# Altium schematic symbol library con-amp-micromatch-8-vias.SCHLIB: 108 symbols (part 3 of 3)
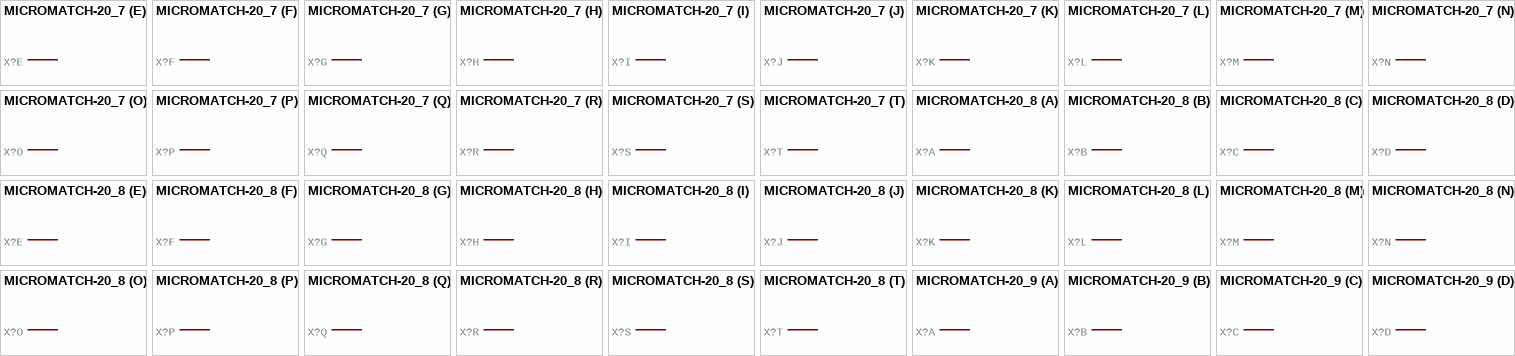
[diagram p40: symbols MICROMATCH-20_7 to MICROMATCH-20_9]

## MICROMATCH-20_7
designator X?, comment MicroMaTch 20  9-215464-0 / 2-215464-0   Drawing Number C-215464 DDEController.pdf  (value not drawn)
GateName_1: -1; SymbolName_1: MV; GateName_2: -2; SymbolName_2: M; GateName_3: -3; GateName_4: -4; GateName_5: -5; GateName_6: -6; GateName_7: -7; GateName_8: -8; GateName_9: -9; GateName_10: -10; GateName_11: -11; GateName_12: -12; GateName_13: -13; GateName_14: -14; GateName_15: -15; GateName_16: -16; GateName_17: -17; GateName_18: -18; GateName_19: -19; GateName_20: -20; DeviceSetName: MICROMATCH-20; MF: FARNELL; SymbolName_3: M; SymbolName_4: M; SymbolName_5: M; SymbolName_6: M; SymbolName_7: M; SymbolName_8: M; SymbolName_9: M; SymbolName_10: M; SymbolName_11: M; SymbolName_12: M; SymbolName_13: M; SymbolName_14: M; SymbolName_15: M; SymbolName_16: M; SymbolName_17: M; SymbolName_18: M; SymbolName_19: M; SymbolName_20: M; LibraryName: con-amp-micromatch-8-vias; Package: MICROMATCH-20; MPN: 9-215464-0; OC_FARNELL: 3784708; OC_NEWARK: 19J6798
footprint MICROMATCH-20
part A pins: 1 S
part B pins: 2 S
part C pins: 3 S
part D pins: 4 S
part E pins: 5 S
part F pins: 6 S
part G pins: 7 S
part H pins: 8 S
part I pins: 9 S
part J pins: 10 S
part K pins: 11 S
part L pins: 12 S
part M pins: 13 S
part N pins: 14 S
part O pins: 15 S
part P pins: 16 S
part Q pins: 17 S
part R pins: 18 S
part S pins: 19 S
part T pins: 20 S

## MICROMATCH-20_8
designator X?, comment MicroMaTch 20  9-215464-0 / 2-215464-0   Drawing Number C-215464 DDEController.pdf  (value not drawn)
GateName_1: -1; SymbolName_1: MV; GateName_2: -2; SymbolName_2: M; GateName_3: -3; GateName_4: -4; GateName_5: -5; GateName_6: -6; GateName_7: -7; GateName_8: -8; GateName_9: -9; GateName_10: -10; GateName_11: -11; GateName_12: -12; GateName_13: -13; GateName_14: -14; GateName_15: -15; GateName_16: -16; GateName_17: -17; GateName_18: -18; GateName_19: -19; GateName_20: -20; DeviceSetName: MICROMATCH-20; MF: FARNELL; SymbolName_3: M; SymbolName_4: M; SymbolName_5: M; SymbolName_6: M; SymbolName_7: M; SymbolName_8: M; SymbolName_9: M; SymbolName_10: M; SymbolName_11: M; SymbolName_12: M; SymbolName_13: M; SymbolName_14: M; SymbolName_15: M; SymbolName_16: M; SymbolName_17: M; SymbolName_18: M; SymbolName_19: M; SymbolName_20: M; LibraryName: con-amp-micromatch-8-vias; Package: MICROMATCH-20; MPN: 9-215464-0; OC_FARNELL: 3784708; OC_NEWARK: 19J6798
footprint MICROMATCH-20
part A pins: 1 S
part B pins: 2 S
part C pins: 3 S
part D pins: 4 S
part E pins: 5 S
part F pins: 6 S
part G pins: 7 S
part H pins: 8 S
part I pins: 9 S
part J pins: 10 S
part K pins: 11 S
part L pins: 12 S
part M pins: 13 S
part N pins: 14 S
part O pins: 15 S
part P pins: 16 S
part Q pins: 17 S
part R pins: 18 S
part S pins: 19 S
part T pins: 20 S

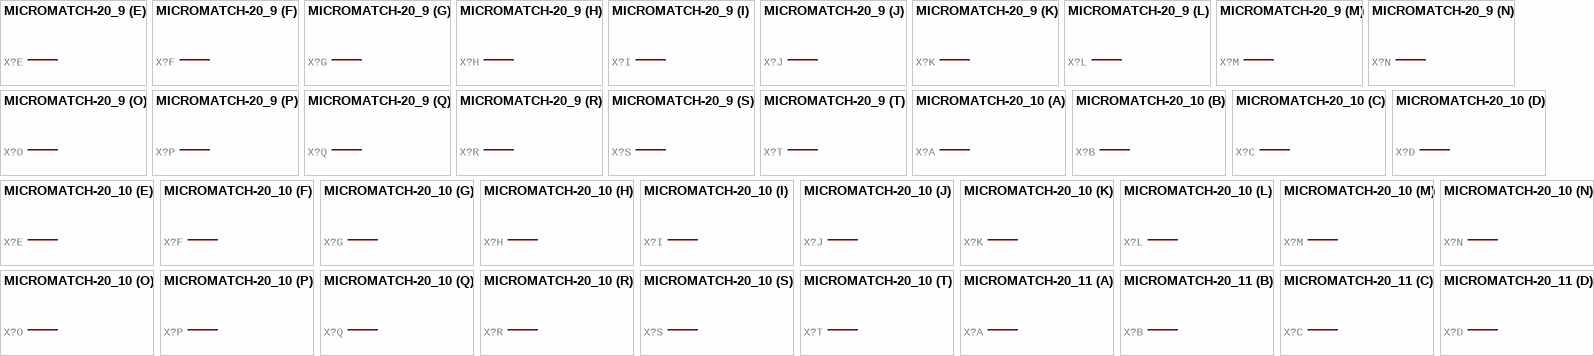
[diagram p33: symbols MICROMATCH-20_9 to MICROMATCH-20_11]

## MICROMATCH-20_9
designator X?, comment MicroMaTch 20  9-215464-0 / 2-215464-0   Drawing Number C-215464 DDEController.pdf  (value not drawn)
GateName_1: -1; SymbolName_1: MV; GateName_2: -2; SymbolName_2: M; GateName_3: -3; GateName_4: -4; GateName_5: -5; GateName_6: -6; GateName_7: -7; GateName_8: -8; GateName_9: -9; GateName_10: -10; GateName_11: -11; GateName_12: -12; GateName_13: -13; GateName_14: -14; GateName_15: -15; GateName_16: -16; GateName_17: -17; GateName_18: -18; GateName_19: -19; GateName_20: -20; DeviceSetName: MICROMATCH-20; MF: FARNELL; SymbolName_3: M; SymbolName_4: M; SymbolName_5: M; SymbolName_6: M; SymbolName_7: M; SymbolName_8: M; SymbolName_9: M; SymbolName_10: M; SymbolName_11: M; SymbolName_12: M; SymbolName_13: M; SymbolName_14: M; SymbolName_15: M; SymbolName_16: M; SymbolName_17: M; SymbolName_18: M; SymbolName_19: M; SymbolName_20: M; LibraryName: con-amp-micromatch-8-vias; Package: MICROMATCH-20; MPN: 9-215464-0; OC_FARNELL: 3784708; OC_NEWARK: 19J6798
footprint MICROMATCH-20
part A pins: 1 S
part B pins: 2 S
part C pins: 3 S
part D pins: 4 S
part E pins: 5 S
part F pins: 6 S
part G pins: 7 S
part H pins: 8 S
part I pins: 9 S
part J pins: 10 S
part K pins: 11 S
part L pins: 12 S
part M pins: 13 S
part N pins: 14 S
part O pins: 15 S
part P pins: 16 S
part Q pins: 17 S
part R pins: 18 S
part S pins: 19 S
part T pins: 20 S

## MICROMATCH-20_10
designator X?, comment MicroMaTch 20  9-215464-0 / 2-215464-0   Drawing Number C-215464 DDEController.pdf  (value not drawn)
GateName_1: -1; SymbolName_1: MV; GateName_2: -2; SymbolName_2: M; GateName_3: -3; GateName_4: -4; GateName_5: -5; GateName_6: -6; GateName_7: -7; GateName_8: -8; GateName_9: -9; GateName_10: -10; GateName_11: -11; GateName_12: -12; GateName_13: -13; GateName_14: -14; GateName_15: -15; GateName_16: -16; GateName_17: -17; GateName_18: -18; GateName_19: -19; GateName_20: -20; DeviceSetName: MICROMATCH-20; MF: FARNELL; SymbolName_3: M; SymbolName_4: M; SymbolName_5: M; SymbolName_6: M; SymbolName_7: M; SymbolName_8: M; SymbolName_9: M; SymbolName_10: M; SymbolName_11: M; SymbolName_12: M; SymbolName_13: M; SymbolName_14: M; SymbolName_15: M; SymbolName_16: M; SymbolName_17: M; SymbolName_18: M; SymbolName_19: M; SymbolName_20: M; LibraryName: con-amp-micromatch-8-vias; Package: MICROMATCH-20; MPN: 9-215464-0; OC_FARNELL: 3784708; OC_NEWARK: 19J6798
footprint MICROMATCH-20
part A pins: 1 S
part B pins: 2 S
part C pins: 3 S
part D pins: 4 S
part E pins: 5 S
part F pins: 6 S
part G pins: 7 S
part H pins: 8 S
part I pins: 9 S
part J pins: 10 S
part K pins: 11 S
part L pins: 12 S
part M pins: 13 S
part N pins: 14 S
part O pins: 15 S
part P pins: 16 S
part Q pins: 17 S
part R pins: 18 S
part S pins: 19 S
part T pins: 20 S

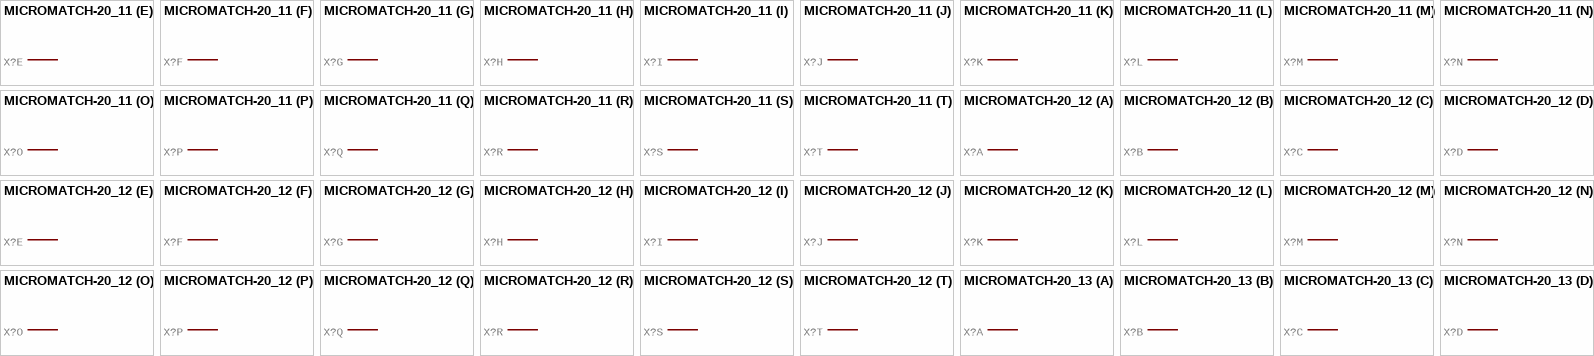
[diagram p34: symbols MICROMATCH-20_11 to MICROMATCH-20_13]

## MICROMATCH-20_11
designator X?, comment MicroMaTch 20  9-215464-0 / 2-215464-0   Drawing Number C-215464 DDEController.pdf  (value not drawn)
GateName_1: -1; SymbolName_1: MV; GateName_2: -2; SymbolName_2: M; GateName_3: -3; GateName_4: -4; GateName_5: -5; GateName_6: -6; GateName_7: -7; GateName_8: -8; GateName_9: -9; GateName_10: -10; GateName_11: -11; GateName_12: -12; GateName_13: -13; GateName_14: -14; GateName_15: -15; GateName_16: -16; GateName_17: -17; GateName_18: -18; GateName_19: -19; GateName_20: -20; DeviceSetName: MICROMATCH-20; MF: FARNELL; SymbolName_3: M; SymbolName_4: M; SymbolName_5: M; SymbolName_6: M; SymbolName_7: M; SymbolName_8: M; SymbolName_9: M; SymbolName_10: M; SymbolName_11: M; SymbolName_12: M; SymbolName_13: M; SymbolName_14: M; SymbolName_15: M; SymbolName_16: M; SymbolName_17: M; SymbolName_18: M; SymbolName_19: M; SymbolName_20: M; LibraryName: con-amp-micromatch-8-vias; Package: MICROMATCH-20; MPN: 9-215464-0; OC_FARNELL: 3784708; OC_NEWARK: 19J6798
footprint MICROMATCH-20
part A pins: 1 S
part B pins: 2 S
part C pins: 3 S
part D pins: 4 S
part E pins: 5 S
part F pins: 6 S
part G pins: 7 S
part H pins: 8 S
part I pins: 9 S
part J pins: 10 S
part K pins: 11 S
part L pins: 12 S
part M pins: 13 S
part N pins: 14 S
part O pins: 15 S
part P pins: 16 S
part Q pins: 17 S
part R pins: 18 S
part S pins: 19 S
part T pins: 20 S

## MICROMATCH-20_12
designator X?, comment MicroMaTch 20  9-215464-0 / 2-215464-0   Drawing Number C-215464 DDEController.pdf  (value not drawn)
GateName_1: -1; SymbolName_1: MV; GateName_2: -2; SymbolName_2: M; GateName_3: -3; GateName_4: -4; GateName_5: -5; GateName_6: -6; GateName_7: -7; GateName_8: -8; GateName_9: -9; GateName_10: -10; GateName_11: -11; GateName_12: -12; GateName_13: -13; GateName_14: -14; GateName_15: -15; GateName_16: -16; GateName_17: -17; GateName_18: -18; GateName_19: -19; GateName_20: -20; DeviceSetName: MICROMATCH-20; MF: FARNELL; SymbolName_3: M; SymbolName_4: M; SymbolName_5: M; SymbolName_6: M; SymbolName_7: M; SymbolName_8: M; SymbolName_9: M; SymbolName_10: M; SymbolName_11: M; SymbolName_12: M; SymbolName_13: M; SymbolName_14: M; SymbolName_15: M; SymbolName_16: M; SymbolName_17: M; SymbolName_18: M; SymbolName_19: M; SymbolName_20: M; LibraryName: con-amp-micromatch-8-vias; Package: MICROMATCH-20; MPN: 9-215464-0; OC_FARNELL: 3784708; OC_NEWARK: 19J6798
footprint MICROMATCH-20
part A pins: 1 S
part B pins: 2 S
part C pins: 3 S
part D pins: 4 S
part E pins: 5 S
part F pins: 6 S
part G pins: 7 S
part H pins: 8 S
part I pins: 9 S
part J pins: 10 S
part K pins: 11 S
part L pins: 12 S
part M pins: 13 S
part N pins: 14 S
part O pins: 15 S
part P pins: 16 S
part Q pins: 17 S
part R pins: 18 S
part S pins: 19 S
part T pins: 20 S

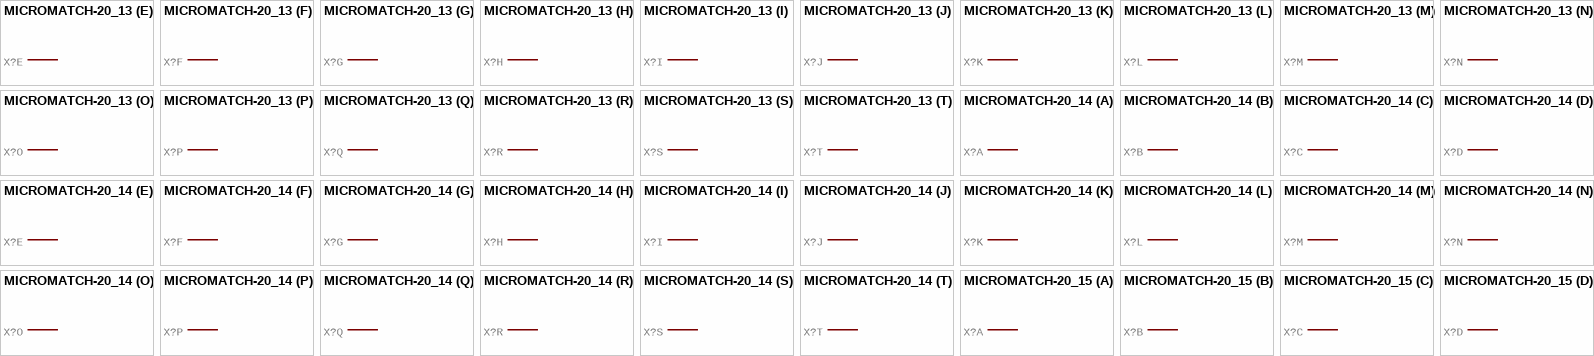
[diagram p35: symbols MICROMATCH-20_13 to MICROMATCH-20_15]

## MICROMATCH-20_13
designator X?, comment MicroMaTch 20  9-215464-0 / 2-215464-0   Drawing Number C-215464 DDEController.pdf  (value not drawn)
GateName_1: -1; SymbolName_1: MV; GateName_2: -2; SymbolName_2: M; GateName_3: -3; GateName_4: -4; GateName_5: -5; GateName_6: -6; GateName_7: -7; GateName_8: -8; GateName_9: -9; GateName_10: -10; GateName_11: -11; GateName_12: -12; GateName_13: -13; GateName_14: -14; GateName_15: -15; GateName_16: -16; GateName_17: -17; GateName_18: -18; GateName_19: -19; GateName_20: -20; DeviceSetName: MICROMATCH-20; MF: FARNELL; SymbolName_3: M; SymbolName_4: M; SymbolName_5: M; SymbolName_6: M; SymbolName_7: M; SymbolName_8: M; SymbolName_9: M; SymbolName_10: M; SymbolName_11: M; SymbolName_12: M; SymbolName_13: M; SymbolName_14: M; SymbolName_15: M; SymbolName_16: M; SymbolName_17: M; SymbolName_18: M; SymbolName_19: M; SymbolName_20: M; LibraryName: con-amp-micromatch-8-vias; Package: MICROMATCH-20; MPN: 9-215464-0; OC_FARNELL: 3784708; OC_NEWARK: 19J6798
footprint MICROMATCH-20
part A pins: 1 S
part B pins: 2 S
part C pins: 3 S
part D pins: 4 S
part E pins: 5 S
part F pins: 6 S
part G pins: 7 S
part H pins: 8 S
part I pins: 9 S
part J pins: 10 S
part K pins: 11 S
part L pins: 12 S
part M pins: 13 S
part N pins: 14 S
part O pins: 15 S
part P pins: 16 S
part Q pins: 17 S
part R pins: 18 S
part S pins: 19 S
part T pins: 20 S

## MICROMATCH-20_14
designator X?, comment MicroMaTch 20  9-215464-0 / 2-215464-0   Drawing Number C-215464 DDEController.pdf  (value not drawn)
GateName_1: -1; SymbolName_1: MV; GateName_2: -2; SymbolName_2: M; GateName_3: -3; GateName_4: -4; GateName_5: -5; GateName_6: -6; GateName_7: -7; GateName_8: -8; GateName_9: -9; GateName_10: -10; GateName_11: -11; GateName_12: -12; GateName_13: -13; GateName_14: -14; GateName_15: -15; GateName_16: -16; GateName_17: -17; GateName_18: -18; GateName_19: -19; GateName_20: -20; DeviceSetName: MICROMATCH-20; MF: FARNELL; SymbolName_3: M; SymbolName_4: M; SymbolName_5: M; SymbolName_6: M; SymbolName_7: M; SymbolName_8: M; SymbolName_9: M; SymbolName_10: M; SymbolName_11: M; SymbolName_12: M; SymbolName_13: M; SymbolName_14: M; SymbolName_15: M; SymbolName_16: M; SymbolName_17: M; SymbolName_18: M; SymbolName_19: M; SymbolName_20: M; LibraryName: con-amp-micromatch-8-vias; Package: MICROMATCH-20; MPN: 9-215464-0; OC_FARNELL: 3784708; OC_NEWARK: 19J6798
footprint MICROMATCH-20
part A pins: 1 S
part B pins: 2 S
part C pins: 3 S
part D pins: 4 S
part E pins: 5 S
part F pins: 6 S
part G pins: 7 S
part H pins: 8 S
part I pins: 9 S
part J pins: 10 S
part K pins: 11 S
part L pins: 12 S
part M pins: 13 S
part N pins: 14 S
part O pins: 15 S
part P pins: 16 S
part Q pins: 17 S
part R pins: 18 S
part S pins: 19 S
part T pins: 20 S

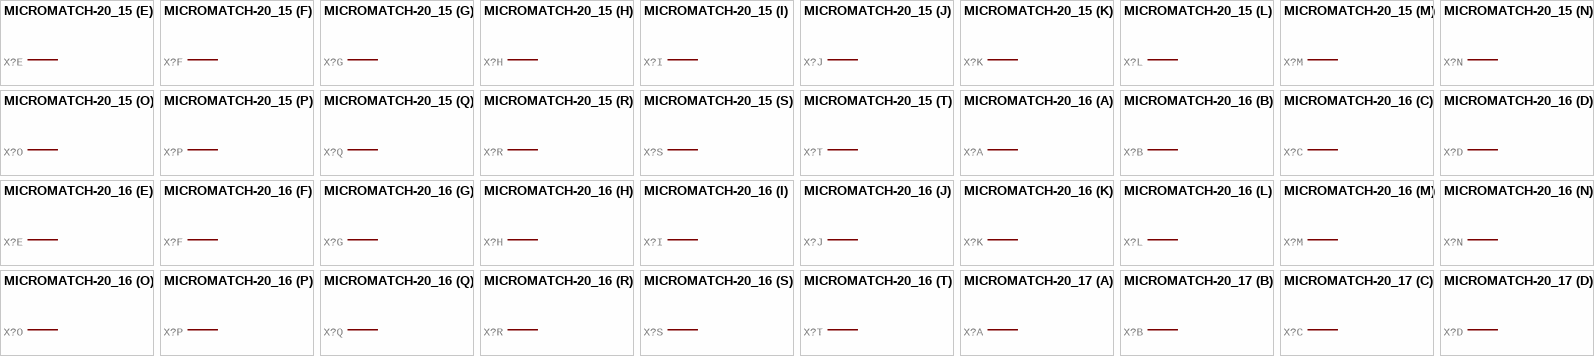
[diagram p36: symbols MICROMATCH-20_15 to MICROMATCH-20_17]

## MICROMATCH-20_15
designator X?, comment MicroMaTch 20  9-215464-0 / 2-215464-0   Drawing Number C-215464 DDEController.pdf  (value not drawn)
GateName_1: -1; SymbolName_1: MV; GateName_2: -2; SymbolName_2: M; GateName_3: -3; GateName_4: -4; GateName_5: -5; GateName_6: -6; GateName_7: -7; GateName_8: -8; GateName_9: -9; GateName_10: -10; GateName_11: -11; GateName_12: -12; GateName_13: -13; GateName_14: -14; GateName_15: -15; GateName_16: -16; GateName_17: -17; GateName_18: -18; GateName_19: -19; GateName_20: -20; DeviceSetName: MICROMATCH-20; MF: FARNELL; SymbolName_3: M; SymbolName_4: M; SymbolName_5: M; SymbolName_6: M; SymbolName_7: M; SymbolName_8: M; SymbolName_9: M; SymbolName_10: M; SymbolName_11: M; SymbolName_12: M; SymbolName_13: M; SymbolName_14: M; SymbolName_15: M; SymbolName_16: M; SymbolName_17: M; SymbolName_18: M; SymbolName_19: M; SymbolName_20: M; LibraryName: con-amp-micromatch-8-vias; Package: MICROMATCH-20; MPN: 9-215464-0; OC_FARNELL: 3784708; OC_NEWARK: 19J6798
footprint MICROMATCH-20
part A pins: 1 S
part B pins: 2 S
part C pins: 3 S
part D pins: 4 S
part E pins: 5 S
part F pins: 6 S
part G pins: 7 S
part H pins: 8 S
part I pins: 9 S
part J pins: 10 S
part K pins: 11 S
part L pins: 12 S
part M pins: 13 S
part N pins: 14 S
part O pins: 15 S
part P pins: 16 S
part Q pins: 17 S
part R pins: 18 S
part S pins: 19 S
part T pins: 20 S

## MICROMATCH-20_16
designator X?, comment MicroMaTch 20  9-215464-0 / 2-215464-0   Drawing Number C-215464 DDEController.pdf  (value not drawn)
GateName_1: -1; SymbolName_1: MV; GateName_2: -2; SymbolName_2: M; GateName_3: -3; GateName_4: -4; GateName_5: -5; GateName_6: -6; GateName_7: -7; GateName_8: -8; GateName_9: -9; GateName_10: -10; GateName_11: -11; GateName_12: -12; GateName_13: -13; GateName_14: -14; GateName_15: -15; GateName_16: -16; GateName_17: -17; GateName_18: -18; GateName_19: -19; GateName_20: -20; DeviceSetName: MICROMATCH-20; MF: FARNELL; SymbolName_3: M; SymbolName_4: M; SymbolName_5: M; SymbolName_6: M; SymbolName_7: M; SymbolName_8: M; SymbolName_9: M; SymbolName_10: M; SymbolName_11: M; SymbolName_12: M; SymbolName_13: M; SymbolName_14: M; SymbolName_15: M; SymbolName_16: M; SymbolName_17: M; SymbolName_18: M; SymbolName_19: M; SymbolName_20: M; LibraryName: con-amp-micromatch-8-vias; Package: MICROMATCH-20; MPN: 9-215464-0; OC_FARNELL: 3784708; OC_NEWARK: 19J6798
footprint MICROMATCH-20
part A pins: 1 S
part B pins: 2 S
part C pins: 3 S
part D pins: 4 S
part E pins: 5 S
part F pins: 6 S
part G pins: 7 S
part H pins: 8 S
part I pins: 9 S
part J pins: 10 S
part K pins: 11 S
part L pins: 12 S
part M pins: 13 S
part N pins: 14 S
part O pins: 15 S
part P pins: 16 S
part Q pins: 17 S
part R pins: 18 S
part S pins: 19 S
part T pins: 20 S

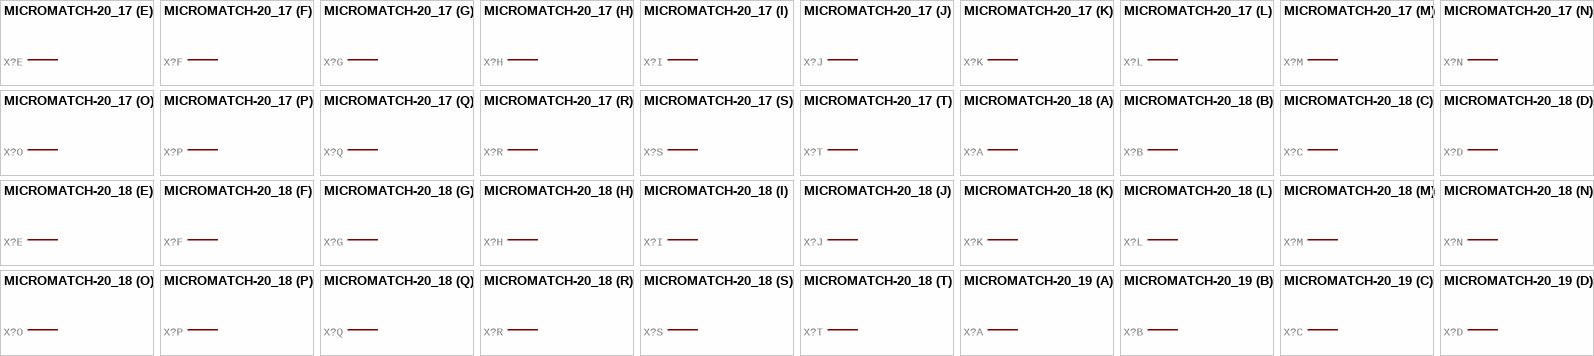
[diagram p37: symbols MICROMATCH-20_17 to MICROMATCH-20_19]

## MICROMATCH-20_17
designator X?, comment MicroMaTch 20  9-215464-0 / 2-215464-0   Drawing Number C-215464 DDEController.pdf  (value not drawn)
GateName_1: -1; SymbolName_1: MV; GateName_2: -2; SymbolName_2: M; GateName_3: -3; GateName_4: -4; GateName_5: -5; GateName_6: -6; GateName_7: -7; GateName_8: -8; GateName_9: -9; GateName_10: -10; GateName_11: -11; GateName_12: -12; GateName_13: -13; GateName_14: -14; GateName_15: -15; GateName_16: -16; GateName_17: -17; GateName_18: -18; GateName_19: -19; GateName_20: -20; DeviceSetName: MICROMATCH-20; MF: FARNELL; SymbolName_3: M; SymbolName_4: M; SymbolName_5: M; SymbolName_6: M; SymbolName_7: M; SymbolName_8: M; SymbolName_9: M; SymbolName_10: M; SymbolName_11: M; SymbolName_12: M; SymbolName_13: M; SymbolName_14: M; SymbolName_15: M; SymbolName_16: M; SymbolName_17: M; SymbolName_18: M; SymbolName_19: M; SymbolName_20: M; LibraryName: con-amp-micromatch-8-vias; Package: MICROMATCH-20; MPN: 9-215464-0; OC_FARNELL: 3784708; OC_NEWARK: 19J6798
footprint MICROMATCH-20
part A pins: 1 S
part B pins: 2 S
part C pins: 3 S
part D pins: 4 S
part E pins: 5 S
part F pins: 6 S
part G pins: 7 S
part H pins: 8 S
part I pins: 9 S
part J pins: 10 S
part K pins: 11 S
part L pins: 12 S
part M pins: 13 S
part N pins: 14 S
part O pins: 15 S
part P pins: 16 S
part Q pins: 17 S
part R pins: 18 S
part S pins: 19 S
part T pins: 20 S

## MICROMATCH-20_18
designator X?, comment MicroMaTch 20  9-215464-0 / 2-215464-0   Drawing Number C-215464 DDEController.pdf  (value not drawn)
GateName_1: -1; SymbolName_1: MV; GateName_2: -2; SymbolName_2: M; GateName_3: -3; GateName_4: -4; GateName_5: -5; GateName_6: -6; GateName_7: -7; GateName_8: -8; GateName_9: -9; GateName_10: -10; GateName_11: -11; GateName_12: -12; GateName_13: -13; GateName_14: -14; GateName_15: -15; GateName_16: -16; GateName_17: -17; GateName_18: -18; GateName_19: -19; GateName_20: -20; DeviceSetName: MICROMATCH-20; MF: FARNELL; SymbolName_3: M; SymbolName_4: M; SymbolName_5: M; SymbolName_6: M; SymbolName_7: M; SymbolName_8: M; SymbolName_9: M; SymbolName_10: M; SymbolName_11: M; SymbolName_12: M; SymbolName_13: M; SymbolName_14: M; SymbolName_15: M; SymbolName_16: M; SymbolName_17: M; SymbolName_18: M; SymbolName_19: M; SymbolName_20: M; LibraryName: con-amp-micromatch-8-vias; Package: MICROMATCH-20; MPN: 9-215464-0; OC_FARNELL: 3784708; OC_NEWARK: 19J6798
footprint MICROMATCH-20
part A pins: 1 S
part B pins: 2 S
part C pins: 3 S
part D pins: 4 S
part E pins: 5 S
part F pins: 6 S
part G pins: 7 S
part H pins: 8 S
part I pins: 9 S
part J pins: 10 S
part K pins: 11 S
part L pins: 12 S
part M pins: 13 S
part N pins: 14 S
part O pins: 15 S
part P pins: 16 S
part Q pins: 17 S
part R pins: 18 S
part S pins: 19 S
part T pins: 20 S

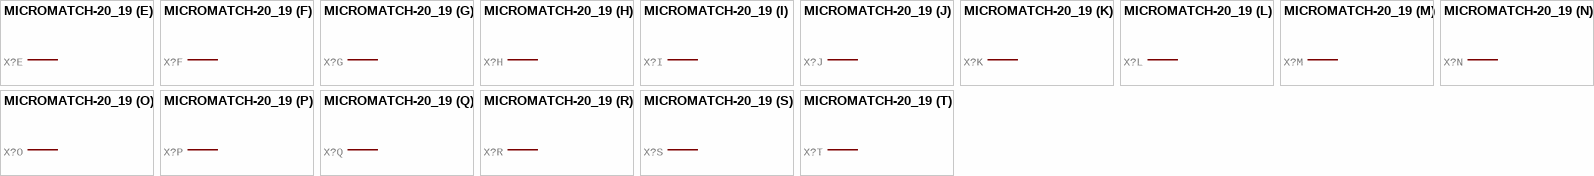
[diagram p38: symbol MICROMATCH-20_19]

## MICROMATCH-20_19
designator X?, comment MicroMaTch 20  9-215464-0 / 2-215464-0   Drawing Number C-215464 DDEController.pdf  (value not drawn)
GateName_1: -1; SymbolName_1: MV; GateName_2: -2; SymbolName_2: M; GateName_3: -3; GateName_4: -4; GateName_5: -5; GateName_6: -6; GateName_7: -7; GateName_8: -8; GateName_9: -9; GateName_10: -10; GateName_11: -11; GateName_12: -12; GateName_13: -13; GateName_14: -14; GateName_15: -15; GateName_16: -16; GateName_17: -17; GateName_18: -18; GateName_19: -19; GateName_20: -20; DeviceSetName: MICROMATCH-20; MF: FARNELL; SymbolName_3: M; SymbolName_4: M; SymbolName_5: M; SymbolName_6: M; SymbolName_7: M; SymbolName_8: M; SymbolName_9: M; SymbolName_10: M; SymbolName_11: M; SymbolName_12: M; SymbolName_13: M; SymbolName_14: M; SymbolName_15: M; SymbolName_16: M; SymbolName_17: M; SymbolName_18: M; SymbolName_19: M; SymbolName_20: M; LibraryName: con-amp-micromatch-8-vias; Package: MICROMATCH-20; MPN: 9-215464-0; OC_FARNELL: 3784708; OC_NEWARK: 19J6798
footprint MICROMATCH-20
part A pins: 1 S
part B pins: 2 S
part C pins: 3 S
part D pins: 4 S
part E pins: 5 S
part F pins: 6 S
part G pins: 7 S
part H pins: 8 S
part I pins: 9 S
part J pins: 10 S
part K pins: 11 S
part L pins: 12 S
part M pins: 13 S
part N pins: 14 S
part O pins: 15 S
part P pins: 16 S
part Q pins: 17 S
part R pins: 18 S
part S pins: 19 S
part T pins: 20 S